# EAGLE library part BUCK_ISL85410 (library Scott-ICs)
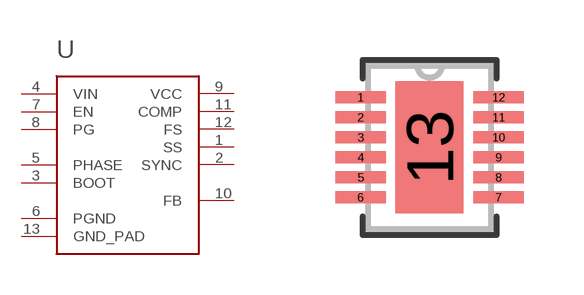
[diagram p5: symbol with the pads of DFN-12_DE-L; footprint DFN-12_DE-L]

Designator prefix -

## BUCK_ISL85410  [DFN-12_DE-L]
1  SS
2  SYNC
3  BOOT
4  VIN
5  PHASE
6  PGND
7  EN
8  PG
9  VCC
10  FB
11  COMP
12  FS
13  GND_PAD

## Footprint DFN-12_DE-L (pad centres in mm)
smd 1.27 x 0.305: 1 -1.727,1.25; 2 -1.727,0.75; 3 -1.727,0.25; 4 -1.727,-0.25; 5 -1.727,-0.75; 6 -1.727,-1.25; 7 1.727,-1.25; 8 1.727,-0.75; 9 1.727,-0.25; 10 1.727,0.25; 11 1.727,0.75; 12 1.727,1.25
smd 1.7 x 3.3: 13 0,0